# Altium integrated library pins.IntLib: 1 symbol
Pins are listed as number, name and electrical type; pins without a type are passive.

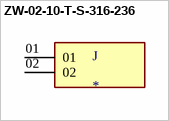
[diagram p0: symbol ZW-02-10-T-S-316-236]

## ZW-02-10-T-S-316-236
designator J
MP: ZW-02-10-T-S-316-236; Package: None; Value: *; Price: None; Availability: Unavailable
footprint SAMTEC_ZW-02-10-T-S-316-236
pins: 01, 02